# EAGLE library part ERM8-010-01-D-EMX (library con-samtec-er8)
ERM8 Series - Male Right Angle Edge Mount
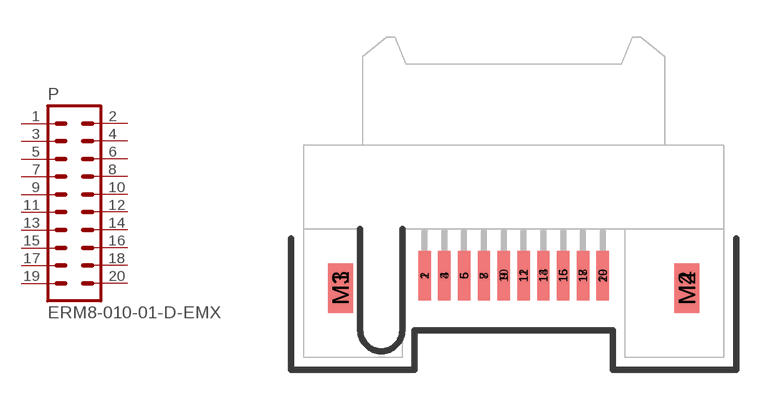
[diagram p41: symbol with the pads of ERM8-010-01-D-EMX; footprint ERM8-010-01-D-EMX]

Designator prefix P

## ERM8-010-01-D-EMX  [ERM8-010-01-D-EMX]
1  1  pas
2  2  pas
3  3  pas
4  4  pas
5  5  pas
6  6  pas
7  7  pas
8  8  pas
9  9  pas
10  10  pas
11  11  pas
12  12  pas
13  13  pas
14  14  pas
15  15  pas
16  16  pas
17  17  pas
18  18  pas
19  19  pas
20  20  pas

## Footprint ERM8-010-01-D-EMX (pad centres in mm)
0.8mm Edge Rate Terminal Assembly MALE, Double Row, 10 Position
smd 0.5 x 2 bottom: 1 -3.6,-1.9; 3 -2.8,-1.9; 5 -2,-1.9; 7 -1.2,-1.9; 9 -0.4,-1.9; 11 0.4,-1.9; 13 1.2,-1.9; 15 2,-1.9; 17 2.8,-1.9; 19 3.6,-1.9
smd 0.5 x 2: 2 -3.6,-1.899; 4 -2.8,-1.899; 6 -2,-1.899; 8 -1.2,-1.899; 10 -0.4,-1.899; 12 0.4,-1.899; 14 1.2,-1.899; 16 2,-1.899; 18 2.8,-1.899; 20 3.6,-1.899
smd 1 x 2: M1 -7,-2.399; M2 7,-2.399
smd 1 x 2 bottom: M3 -7,-2.4; M4 7,-2.4